# Altium schematic symbol library SCH - OPAMP - ANALOG DEV AD8352ACPZ.SCHLIB: 1 symbol
Pins are listed as number, name and electrical type; pins without a type are passive.

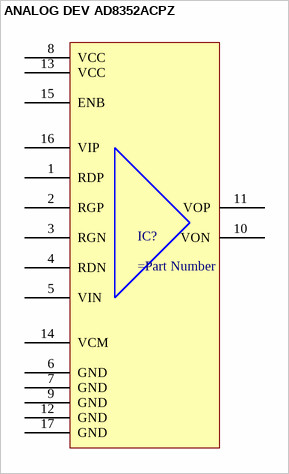
[diagram p0: symbol ANALOG DEV AD8352ACPZ]

## ANALOG DEV AD8352ACPZ
designator IC?
pins: 1 RDP, 2 RGP, 3 RGN, 4 RDN, 5 VIN, 6 GND, 7 GND, 8 VCC, 9 GND, 10 VON, 11 VOP, 12 GND, 13 VCC, 14 VCM, 15 ENB, 16 VIP, 17 GND